# Altium schematic symbol library A783.SchLib: 1 symbol
Pins are listed as number, name and electrical type; pins without a type are passive.

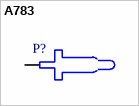
[diagram p0: symbol A783]

## A783
designator P?  (value not drawn)
pins: 1